# Altium footprint library WiFi_Lib.PcbLib: 36 footprints (part 1 of 3)
Each footprint in its own frame and in the unit in brackets; x right, y up, seen from the top. Pads: shape width x height; smd on the part's side, far side on the other; paste and mask are expansions set on the pad; w line width, h text height; cw(c..) or ccw(c..) is an arc to the next point about the centre after c.
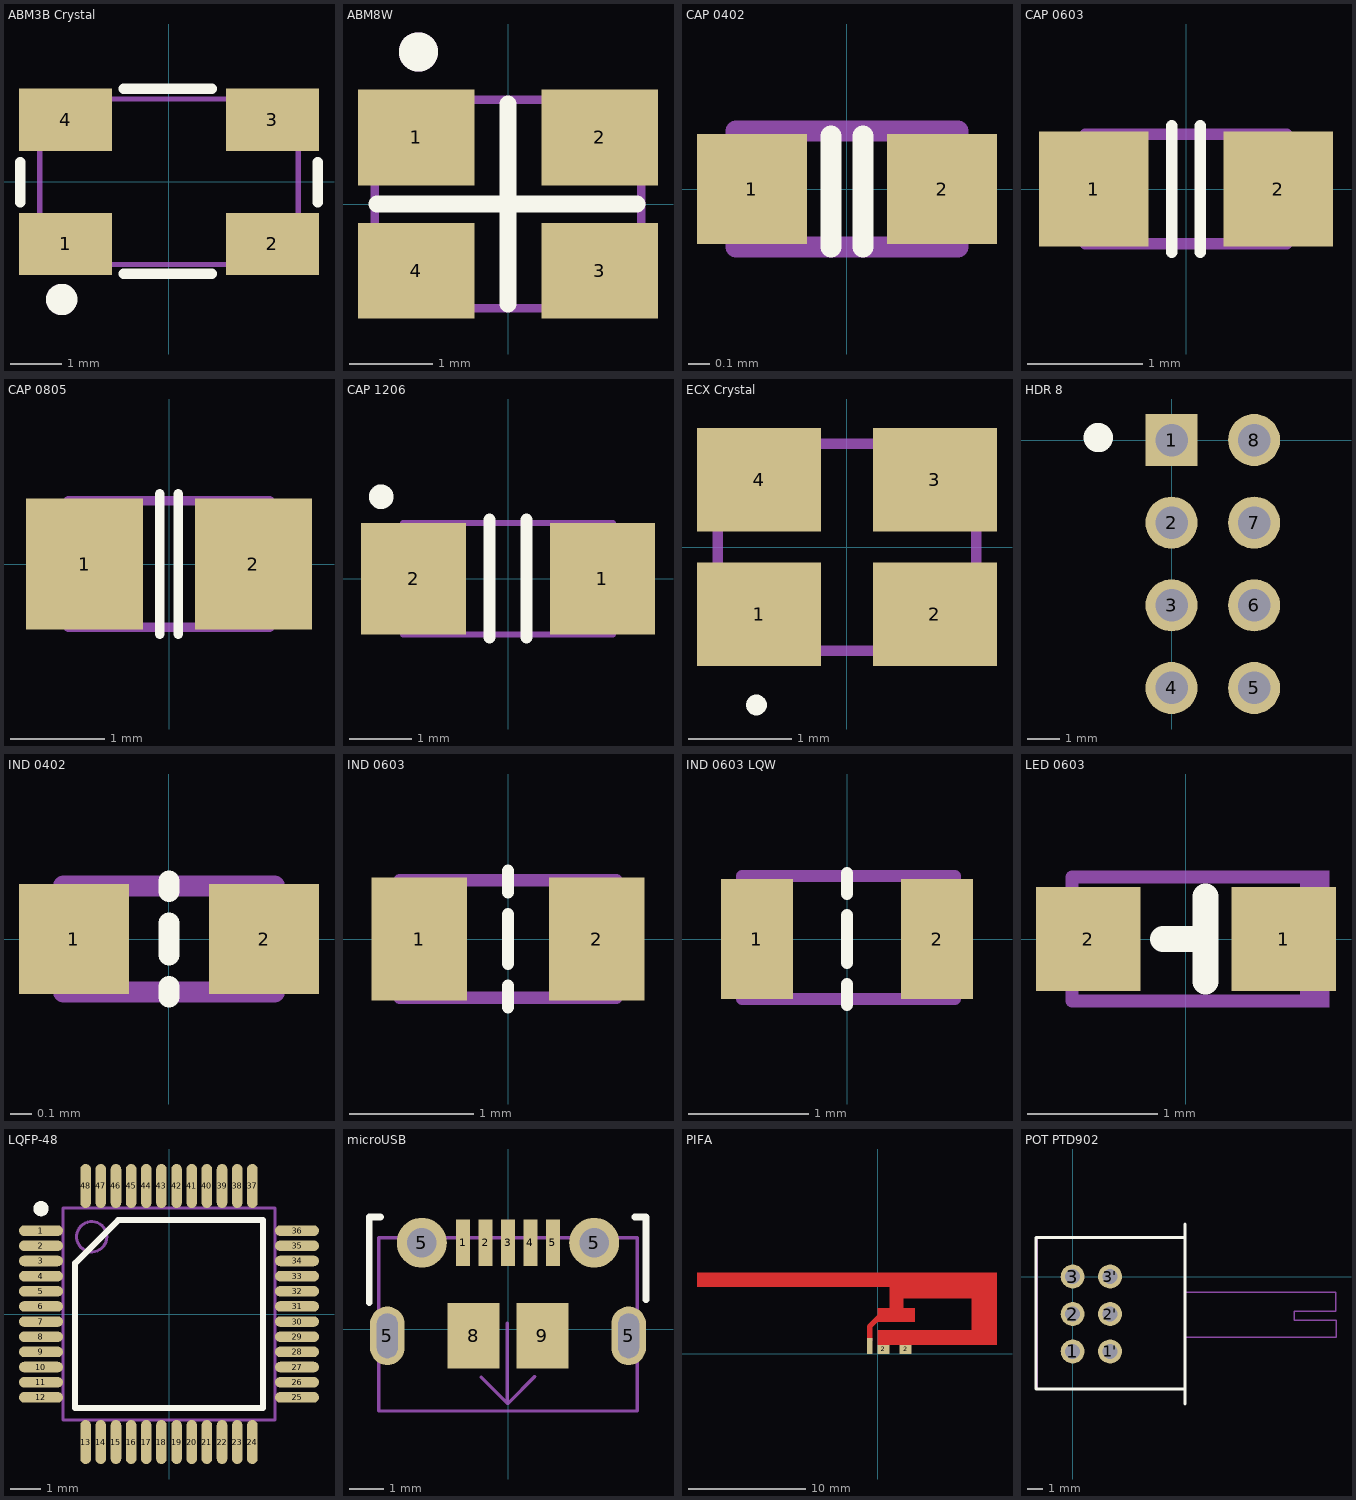
[diagram p0: the footprints below, top view; thin cyan lines are the x and y axes]

## ABM3B Crystal [mm] "4-Leads, Pitch 4.00mm, IPC Medium Density"
height 0.5
pads (4):
  rect 1.8x1.2 smd: 1(-2,-1.2) 2(2,-1.2) 3(2,1.2) 4(-2,1.2)
Top Overlay:
  circle w0.4: c-2.075,-2.275 r0.103
  lines w0.2: -2.875,-0.4 -2.875,0.375 ; -0.875,-1.775 0.825,-1.775 ; -0.875,1.8 0.825,1.8 ; 2.875,-0.4 2.875,0.375
Mechanical 13:
  circle w0.4: c-2.075,-2.275 r0.1
  lines w0.1: -2.5,-1.6 -2.5,1.6 2.5,1.6 2.5,-1.6 -2.5,-1.6
  text "'.Designator'" at -1.5,-0.7 h1.5
3D body "ABM3B.STEP": height 1.1, standoff -0.01, extent -2.5,-1.612 2.5,1.563

## ABM8W [mm] "4-Leads, Body 2.50x3.20mm, Pitch 2.20mm, IPC Medium Density"
height 0.75
pads (4):
  rect 1.4x1.15 smd: 1(-1.1,0.8) 2(1.1,0.8) 3(1.1,-0.8) 4(-1.1,-0.8)
Top Overlay:
  circle w0.4: c-1.075,1.825 r0.035
  lines w0.2: -1.575,0 1.55,0 ; 0,-1.2 0,1.2 0,0
Mechanical 13:
  circle w0.4: c-1.075,1.825 r0.035
  lines w0.1: -1.6,-1.25 1.6,-1.25 1.6,1.25 -1.6,1.25 -1.6,-1.25
  text "'.Designator'" at -1.225,-0.4 h1
3D body "ABM8.STEP": height 0.8, standoff 0, extent -1.6,-1.244 1.6,1.245

## CAP 0402 [mm]
pads (2):
  rect 0.52x0.52 smd mask+0.05: 1(-0.45,0) 2(0.45,0)
Top Overlay:
  lines w0.1: -0.075,-0.275 -0.075,0.25 ; 0.075,-0.275 0.075,0.25
Mechanical 13:
  lines w0.1: -0.525,-0.275 -0.525,0.275 0.525,0.275 0.525,-0.275 -0.525,-0.275
  text "'.Designator'" at -0.45,-0.15 h0.3
3D body "CBR04C309B5GAC.step": height 0.56, standoff 0.01, extent -0.525,-0.275 0.525,0.275

## CAP 0603 [mm] "Chip Capacitor, 2-Leads, Body 1.60x0.82mm, IPC Medium Density"
height 0.95
pads (2):
  rect 0.95x1 smd: 1(-0.8,0) 2(0.8,0)
Top Overlay:
  lines w0.1: -0.125,-0.55 -0.125,0.55 ; 0.125,-0.55 0.125,0.55
Mechanical 13:
  lines w0.1: -0.875,-0.475 -0.875,0.475 0.875,0.475 0.875,-0.475 -0.875,-0.475
  text "'.Designator'" at -0.65,-0.25 h0.5
3D body "CAPC1608X09N.step": height 0.95, standoff 0, extent -0.875,-0.475 0.875,0.475

## CAP 0805 [mm] "Chip Capacitor, 2-Leads, Body 1.95x1.25mm, IPC Medium Density"
height 1.35
pads (2):
  rect 1.25x1.4 smd: 1(-0.9,0) 2(0.9,0)
Top Overlay:
  lines w0.1: -0.1,-0.75 -0.1,0.75 ; 0.1,-0.75 0.1,0.75
Mechanical 13:
  lines w0.1: -1.075,-0.675 1.075,-0.675 1.075,0.675 -1.075,0.675 -1.075,-0.675
  text "'.Designator'" at -0.9,-0.425 h0.7
3D body "CAPC1912X14N.step": height 1.35, standoff 0, extent -1.075,-0.675 1.075,0.675

## CAP 1206 [mm] "Molded Capacitor, 2-Leads, Body 3.20x1.60mm, IPC Medium Density"
height 1.8
pads (2):
  rect 1.7x1.8 smd: 1(1.525,0) 2(-1.525,0)
Top Overlay:
  circle w0.2: c-2.05,1.325 r0.1
  lines w0.2: -0.3,-0.95 -0.3,0.95 ; 0.3,-0.95 0.3,0.95
Mechanical 13:
  rectangle: -1.7,-0.9 -1.243,0.9
  lines w0.1: -1.7,-0.9 -1.7,0.9 1.7,0.9 1.7,-0.9 -1.7,-0.9
  text "'.Designator'" at -0.975,-0.425 h1
3D body "CAP 1206.step": height 1.8, standoff 0, extent -1.92,-0.9 1.92,0.9

## ECX Crystal [mm] "4-Leads, Pitch 1.30mm, IPC Medium Density"
height 0.5
pads (4):
  rect 1.2x1 smd: 1(-0.85,-0.65) 2(0.85,-0.65) 3(0.85,0.65) 4(-0.85,0.65)
Top Overlay:
  circle w0.1: c-0.875,-1.525 r0.05
Mechanical 13:
  lines w0.1: -1.25,-1 -1.25,1 1.25,1 1.25,-1 -1.25,-1
  text "'.Designator'" at -0.925,-0.425 h1
3D body "ECS-120-12-36-AGN-TR--3DModel-STEP-56544.STEP": height 0.6, standoff 0, extent -1.25,-1 1.25,1

## HDR 8 [mm]
pads (8):
  rect 1.6x1.6 hole 1: 1(0,0)
  round 1.6 hole 1: 2(0,-2.54) 3(0,-5.08) 4(0,-7.62) 5(2.54,-7.62) 6(2.54,-5.08) 7(2.54,-2.54) 8(2.54,0)
Top Overlay:
  circle w0.5: c-2.25,0.075 r0.2
3D body "Download_STP_61300821121 (rev1).stp": height 8.55, standoff -2.99, extent -1.265,-8.885 3.815,1.275

## IND 0402 [mm]
pads (2):
  rect 0.52x0.52 smd mask+0.05: 1(-0.45,0) 2(0.45,0)
Top Overlay:
  lines w0.1: 0,-0.275 0,-0.225 ; 0,-0.075 0,0.075 ; 0,0.225 0,0.275
Mechanical 13:
  lines w0.1: -0.5,-0.25 0.5,-0.25 0.5,0.25 -0.5,0.25 -0.5,-0.25
  text "'.Designator'" at -0.325,-0.15 h0.3
3D body "AIMC-0402.STEP": height 0.51, standoff 0.01, extent -0.5,-0.25 0.5,0.25

## IND 0603 [mm] "Chip Inductor, 2-Leads, Body 1.60x0.85mm, IPC Medium Density"
height 0.95
pads (2):
  rect 0.77x0.99 smd: 1(-0.715,0) 2(0.715,0)
Top Overlay:
  lines w0.1: 0,-0.55 0,-0.375 ; 0,-0.2 0,0.2 ; 0,0.375 0,0.55
Mechanical 13:
  lines w0.1: -0.875,-0.475 -0.875,0.475 0.875,0.475 0.875,-0.475 -0.875,-0.475
  text "'.Designator'" at -0.6,-0.25 h0.5
3D body "IND 0603.step": height 0.95, standoff 0, extent -0.875,-0.475 0.875,0.475

## IND 0603 LQW [mm]
pads (2):
  rect 0.6x1 smd: 1(-0.75,0) 2(0.75,0)
Top Overlay:
  lines w0.1: 0,-0.55 0,-0.375 ; 0,-0.2 0,0.2 ; 0,0.375 0,0.55
Mechanical 13:
  lines w0.1: -0.875,-0.5 0.9,-0.5 0.9,0.525 -0.875,0.525 -0.875,-0.5
  text "'.Designator'" at -0.65,-0.2 h0.5
3D body "LQW18AN2N2C8ZD--3DModel-STEP-56544.STEP": height 1, standoff 0, extent -0.825,-0.495 0.825,0.495

## LED 0603 [mm]
pads (2):
  rect 0.8x0.8 smd: 1(0.75,0) 2(-0.75,0)
Top Overlay:
  lines w0.2: -0.175,0 0.125,0 ; 0.15,-0.325 0.15,0.325
Mechanical 13:
  rectangle: 0.875,-0.525 1.1,0.525
  lines w0.1: 0.875,-0.475 -0.875,-0.475 -0.875,0.475 0.875,0.475
  text "'.Designator'" at -0.6,-0.25 h0.5
3D body "LTST-C190KRKT--3DModel-STEP-56544.STEP": height 0.8, standoff 0, extent -0.8,-0.4 0.8,0.4

## LQFP-48 [mm] "LQFP, 48-Leads, Body 7.00x7.00mm, Pitch 0.50mm, IPC Medium Density"
height 1.85
pads (48):
  oval 1.45x0.35 smd: 1(-4.225,2.75) 2(-4.225,2.25) 3(-4.225,1.75) 4(-4.225,1.25) 5(-4.225,0.75) 6(-4.225,0.25) 7(-4.225,-0.25) 8(-4.225,-0.75) 9(-4.225,-1.25) 10(-4.225,-1.75) 11(-4.225,-2.25) 12(-4.225,-2.75) 25(4.225,-2.75) 26(4.225,-2.25) 27(4.225,-1.75) 28(4.225,-1.25) 29(4.225,-0.75) 30(4.225,-0.25) 31(4.225,0.25) 32(4.225,0.75) 33(4.225,1.25) 34(4.225,1.75) 35(4.225,2.25) 36(4.225,2.75)
  oval 0.35x1.45 smd: 13(-2.75,-4.225) 14(-2.25,-4.225) 15(-1.75,-4.225) 16(-1.25,-4.225) 17(-0.75,-4.225) 18(-0.25,-4.225) 19(0.25,-4.225) 20(0.75,-4.225) 21(1.25,-4.225) 22(1.75,-4.225) 23(2.25,-4.225) 24(2.75,-4.225) 37(2.75,4.225) 38(2.25,4.225) 39(1.75,4.225) 40(1.25,4.225) 41(0.75,4.225) 42(0.25,4.225) 43(-0.25,4.225) 44(-0.75,4.225) 45(-1.25,4.225) 46(-1.75,4.225) 47(-2.25,4.225) 48(-2.75,4.225)
Top Overlay:
  circle w0.25: c-4.225,3.475 r0.125
  lines w0.2: -3.1,-3.1 -3.1,1.675 -1.675,3.1 3.1,3.1 3.1,-3.1 -3.1,-3.1
Mechanical 13:
  circle w0.1: c-2.55,2.55 r0.5
  lines w0.1: -3.5,-3.5 3.5,-3.5 3.5,3.5 -3.5,3.5 -3.5,-3.5
  text "'.Designator'" at -1.675,-0.575 h1.5
3D body "LQFP-48.step": height 1.85, standoff 0, extent -4.5,-4.5 4.5,4.5

## microUSB [mil]
pads (11):
  rect 16x53 smd paste+0 mask+0: 1(-51.24,98.57) 2(-25.65,98.57) 3(-0.06,98.57) 4(25.53,98.57) 5(51.12,98.57)
  oval 39.37x66.93 hole 23.62 slot 51.18 at 90 deg: 5(-137.86,-7.73) 5(137.73,-7.73)
  round 57 hole 34: 5(-98.49,98.57) 5(98.36,98.57)
  rect 59x75 smd: 8(-39.43,-7.73) 9(39.31,-7.73)
Top Overlay:
  lines w7.87: -158.46,30.51 -158.46,127.95 -145.67,127.95 ; 144.69,127.95 157.48,127.95 157.48,33.46
Mechanical 13:
  lines w3.94: -30.51,-55.12 -0.98,-84.65 ; -0.98,6.89 -0.98,-84.65 ; 30.51,-54.13 0,-84.65 -0.98,-84.65 ; -147.64,-93.5 147.64,-93.5 147.64,104.33 -147.64,104.33 -147.64,-93.5
  text "'.Designator'" at -74.8,26.57 h59.06
Multi-Layer:
  lines w24: -137.86,-21.23 -137.86,5.77 ; 137.73,-21.23 137.73,5.77
3D body "1050171001.stp": height 106.8, standoff -23.12, extent -147.63,-92.51 147.64,104.34

## PIFA [mm]
pads (3):
  rect 0.46x1.346 smd paste+0 mask+0: 1(-0.675,0.665)
  rect 1x0.75 smd paste+0 mask+0: 2(0.5,0.375) 2(2.38,0.375)
Top Layer:
  region: 10.18,6.91 -15.4,6.91 -15.4,5.7 10.18,5.7
  region: 10.18,5.7 8,5.7 8,2.03 10.18,2.03
  region: 10.18,2.03 0,2.03 0,0.74 10.18,0.74
  region: 8,5.78 2.2,5.78 2.2,4.7 8,4.7
  region: 3.2,3.9 0,3.9 0,2.69 3.2,2.69
  region: 2.2,5.74 1,5.74 1,3.835 2.2,3.835
  lines w0.46: -0.68,1.25 -0.68,2.33 0.168,3.178

## POT PTD902 [mm]
pads (6):
  round 1.6 hole 1: 1(0,-5) 1'(2.5,-5) 2(0,-2.5) 2'(2.5,-2.5) 3(0,0) 3'(2.5,0)
Top Overlay:
  lines w0.2: 7.5,-8.525 7.5,3.525 ; 7.5,-7.5 -2.45,-7.5 -2.45,2.6 7.5,2.6
Mechanical 13:
  lines w0.1: 7.475,2.6 -2.375,2.6 -2.375,-7.525 7.525,-7.525 7.525,2.55 ; 7.525,-4.05 17.6,-4.05 17.6,-2.925 14.8,-2.925 14.8,-2.325 17.575,-2.325 17.575,-1.05 7.575,-1.05
  text "'.Designator'" at 1.125,-0.075 h1.5
3D body "ptd902-xx15k-xxxx.stp": height 11.36, standoff -3.49, extent -2.15,-7.3 22.5,2.3